# EAGLE library part DSPIC30F2020-30I/SP (library Microchip_By_element14_Batch_1)
Digital Signal Controllers
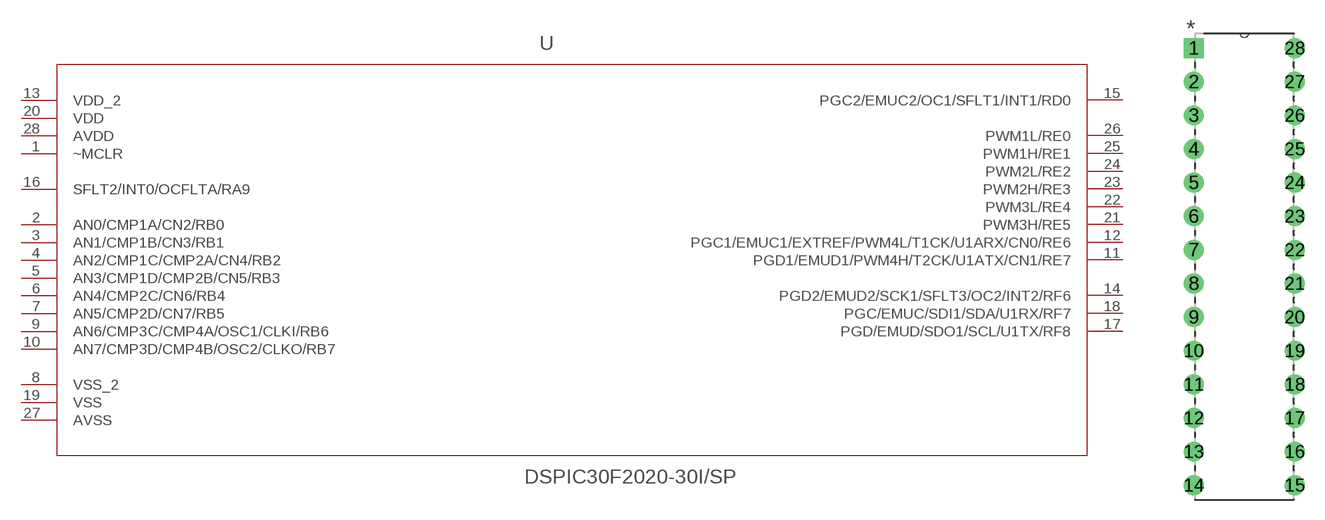
[diagram p284: symbol with the pads of DIP254P762X406-28; footprint DIP254P762X406-28]

Designator prefix -

## DSPIC30F2020-30I/SP (MPN: DSPIC30F2020-30I/SP; OC_FARNELL: 1297281; OC_NEWARK: 88K3883; PACKAGE: SPDIP-28; SUPPLIER: Microchip)  [DIP254P762X406-28]
1  ~MCLR  in
2  AN0/CMP1A/CN2/RB0
3  AN1/CMP1B/CN3/RB1
4  AN2/CMP1C/CMP2A/CN4/RB2
5  AN3/CMP1D/CMP2B/CN5/RB3
6  AN4/CMP2C/CN6/RB4
7  AN5/CMP2D/CN7/RB5
8  VSS_2  pwr
9  AN6/CMP3C/CMP4A/OSC1/CLKI/RB6
10  AN7/CMP3D/CMP4B/OSC2/CLKO/RB7
11  PGD1/EMUD1/PWM4H/T2CK/U1ATX/CN1/RE7
12  PGC1/EMUC1/EXTREF/PWM4L/T1CK/U1ARX/CN0/RE6
13  VDD_2
14  PGD2/EMUD2/SCK1/SFLT3/OC2/INT2/RF6
15  PGC2/EMUC2/OC1/SFLT1/INT1/RD0
16  SFLT2/INT0/OCFLTA/RA9
17  PGD/EMUD/SDO1/SCL/U1TX/RF8
18  PGC/EMUC/SDI1/SDA/U1RX/RF7
19  VSS  pwr
20  VDD  pwr
21  PWM3H/RE5
22  PWM3L/RE4
23  PWM2H/RE3
24  PWM2L/RE2
25  PWM1H/RE1
26  PWM1L/RE0
27  AVSS  pwr
28  AVDD  pwr

## Footprint DIP254P762X406-28 (pad centres in mm)
drill 0.991 square: 1 -7.62,33.02
drill 0.991: 2 -7.62,30.48; 3 -7.62,27.94; 4 -7.62,25.4; 5 -7.62,22.86; 6 -7.62,20.32; 7 -7.62,17.78; 8 -7.62,15.24; 9 -7.62,12.7; 10 -7.62,10.16; 11 -7.62,7.62; 12 -7.62,5.08; 13 -7.62,2.54; 14 -7.62,0; 15 0,0; 16 0,2.54; 17 0,5.08; 18 0,7.62; 19 0,10.16; 20 0,12.7; 21 0,15.24; 22 0,17.78; 23 0,20.32; 24 0,22.86; 25 0,25.4; 26 0,27.94; 27 0,30.48; 28 0,33.02